# Altium schematic symbol library Light.SchLib: 1 symbol
Pins are listed as number, name and electrical type; pins without a type are passive.

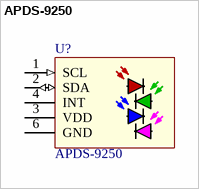
[diagram p0: symbol APDS-9250]

## APDS-9250
designator U?
Digital RGB, IR and Ambient Light Sensor; value: APDS-9250
footprint APDS-9250 (SON, 6-Leads, Body 2,00x2,00mm, Pitch 0,65mm, IPC Medium Density)
pins: 1 SCL (in), 2 SDA (io), 3 VDD (power), 4 INT (oc), 6 GND (power)